# Altium integrated library DAQBOXRev3.2026.IntLib: 12 symbols
Pins are listed as number, name and electrical type; pins without a type are passive.

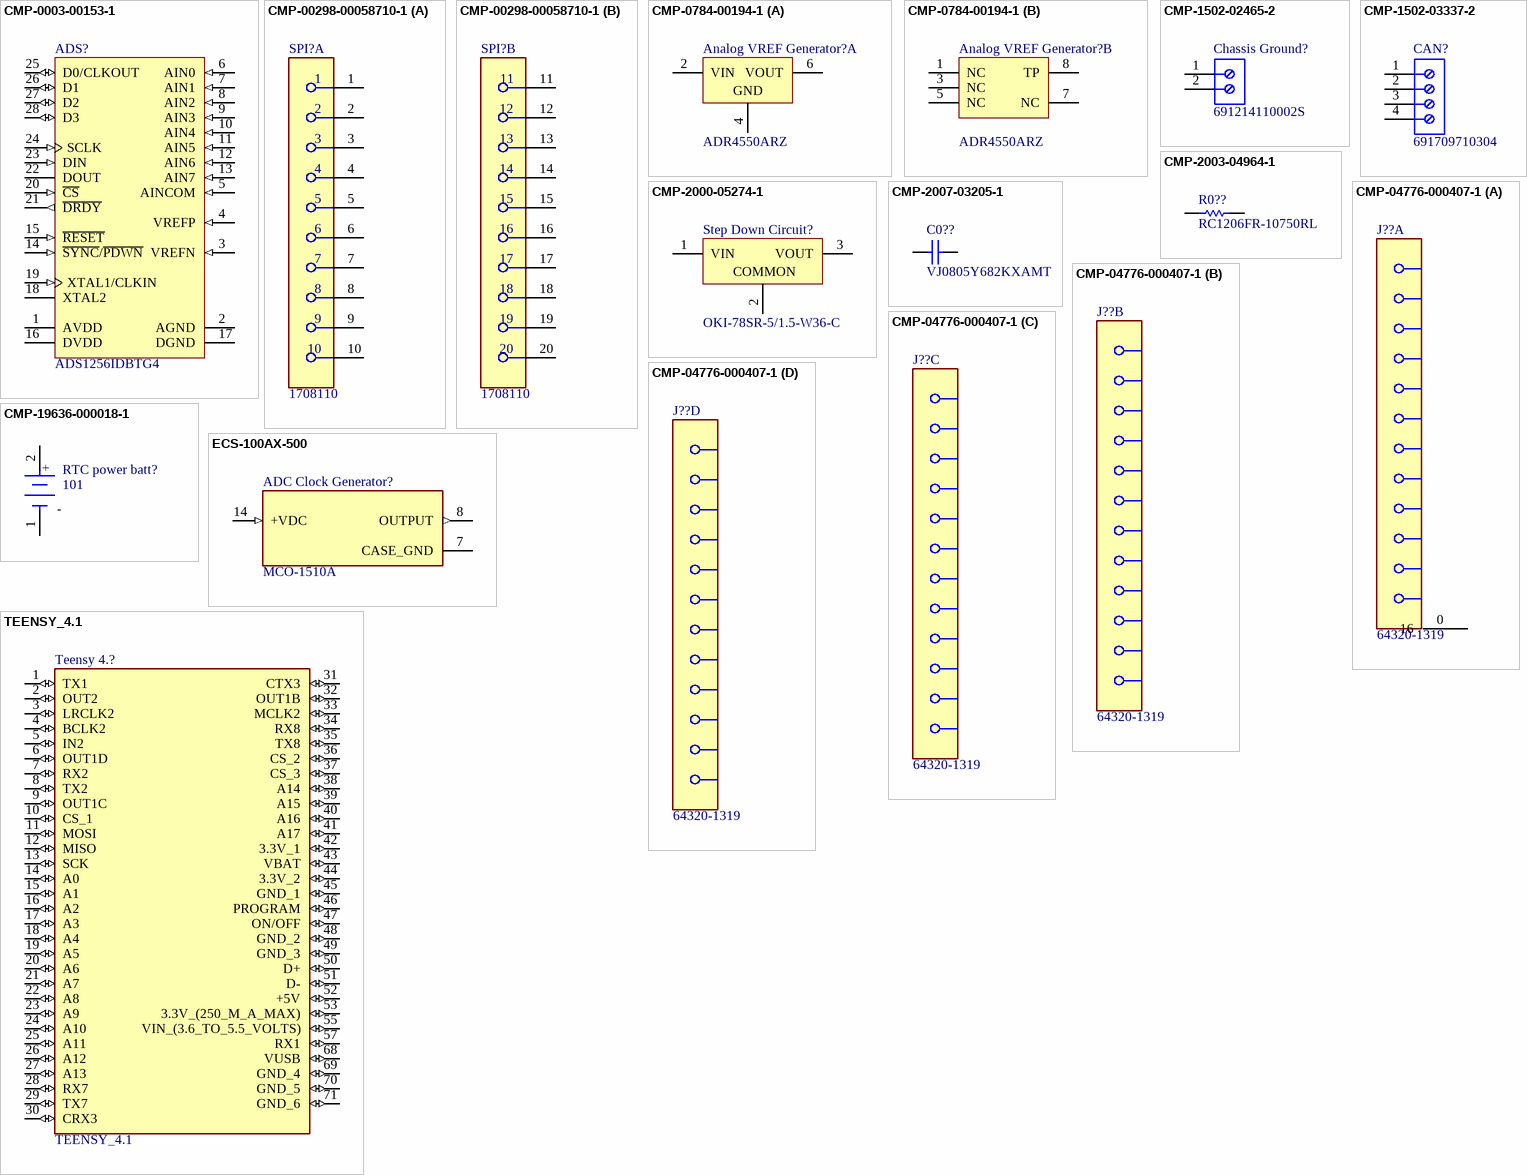
[diagram p0: symbols CMP-0003-00153-1 to TEENSY_4.1]

## CMP-0003-00153-1
designator ADS?, comment ADS1256IDBTG4
24-Bit, 30 kSPS Very Low Noise Delta-Sigma ADC with Multiplexer, -40 to 85 degC, 28-pin SOP (DB28), Green (RoHS & no Sb/Br); Manufacturer: Texas Instruments; SubFamily: Precision ADC (<=10MSPS); Analog Voltage AV/DD(Min)(V): 4.75; Digital Supply(Max)(V): 3.6; Digital Supply(Min)(V): 1.8; Resolution(Bits): 24; Analog Voltage AV/DD(Max)(V): 5.25; Sample Rate (max)(SPS): 30k; # Input Channels: 8; Interface: Serial SPI; Mounting Technology: Surface Mount; Architecture: Delta-Sigma; DatasheetVersion: SBAS288J; ComponentLink3Description: Package Specification; Eco-Plan: Green (RoHS & no Sb/Br); Code_JEDEC: MO-150; PackageDescription: 28-Pin Plastic Small Outline, Body 10.2 X 5.3 mm, Pitch 0.65 mm; ComponentLink3URL: http://www.ti.com/lit/ml/msso002e/msso002e.pdf; ComponentLink1Description: Manufacturer URL; ComponentLink1URL: http://www.ti.com/; PartNumber: ADS1256IDBTG4; ComponentLink2URL: http://www.ti.com/general/docs/lit/getliterature.tsp?genericPartNumber=ADS1256&fileType=pdf; PackageReference: DB28; PackageVersion: 4040065/E, 12/2001; ComponentLink2Description: Datasheet
footprint TI-DB28_L (SOP, 28-Leads, Body 10.2x5.3mm, Pitch 0.65mm, IPC High Density)
footprint TI-DB28_M (SOP, 28-Leads, Body 10.2x5.3mm, Pitch 0.65mm, IPC Low Density)
footprint TI-DB28_N (SOP, 28-Leads, Body 10.2x5.3mm, Pitch 0.65mm, IPC Medium Density)
pins: 1 AVDD (power) "Analog power supply", 2 AGND (power) "Analog ground", 3 VREFN (in) "Negative reference input", 4 VREFP (in) "Positive reference input", 5 AINCOM (in) "Analog input common", 6 AIN0 (in) "Analog input 0", 7 AIN1 (in) "Analog input 1", 8 AIN2 (in) "Analog input 2", 9 AIN3 (in) "Analog input 3", 10 AIN4 (in) "Analog input 4", 11 AIN5 (in) "Analog input 5", 12 AIN6 (in) "Analog input 6", 13 AIN7 (in) "Analog input 7", 14 ~{SYNC}/~{PDWN} (in) "Synchronization / power down input", 15 ~{RESET} (in) "Reset input", 16 DVDD (power) "Digital power supply", 17 DGND (power) "Digital ground", 18 XTAL2 "Crystal oscillator connection", 19 XTAL1/CLKIN (in) "Crystal oscillator connection / external clock input", 20 ~{CS} (in) "Chip select", 21 ~{DRDY} (out) "Data ready output", 22 DOUT (hiz) "Serial data output", 23 DIN (in) "Serial data input", 24 SCLK (in) "Serial clock input", 25 D0/CLKOUT (io) "Digital I/O 0 / clock output", 26 D1 (io) "Digital I/O 1", 27 D2 (io) "Digital I/O 2", 28 D3 (io) "Digital I/O 3"

## CMP-00298-00058710-1
designator SPI?, comment 1708110
1708110 10 Position Wire to Board Terminal Block Horizontal with Board 0.150" (3.81mm) Through Hole; NexarPartId: 58710; Number of Circuits: 20; Max Current Rating: 10A; Gender: Male; Stripping Length: 5mm; Connector Type: Screw; Voltage: 300V; Number of Poles: 10; Wire Gauge (Min): 26AWG; Wire Gauge (Max): 30AWG; Current Rating: 8A; Number of Levels: 2; Voltage Rating: 200V; Approvals: CB, CSA, UL, cULus; Width: 16.3mm; Ambient Temperature Range High: 105°C; Depth: 16.2mm; Min Operating Temperature: -40°C; Number of Rows: 2; Contact Material: Tin; Termination: Screw; Mount: Through Hole; Housing Color: Green; RoHS: Compliant; Pitch: 3.81mm; Color: Green; Housing Material: Nylon; Insulation Material: Nylon; Number of Contacts: 10; Current: 10A; Max Operating Temperature: 105°C; Number of Positions Per Level: 10; Flammability Rating: UL94 V-0; Length: 38.1mm; Material: Polyamide; Number of Positions: 10; Lead Free: Lead Free; Weight: 1.360777kg; Height: 16.2mm; Number of Pins: 20; Orientation: Straight
footprint FP-1708110-MFG (10 Position Wire to Board Terminal Block Horizontal with Board 0.150" (3.81mm) Through Hole)
part A pins: 1, 2, 3, 4, 5, 6, 7, 8, 9, 10
part B pins: 11, 12, 13, 14, 15, 16, 17, 18, 19, 20

## CMP-0784-00194-1
designator Analog VREF Generator?, comment ADR4550ARZ
Ultralow Noise, High Accuracy Voltage Reference, 5 V Output, 3 to 15 V Supply, Industrial, 8-pin SOIC (R-8), Tube; Manufacturer: Analog Devices; Vout: 5V; Max V Supply (V): 15; Min V Supply (V): 3; Ref Out TC (ppm/C): 4; PackageReference: R-8; PackageDescription: 8-Pin Standard Small Outline Package, Body 4.9 x 3.9 mm, Pitch 1.27 mm; PackageVersion: 060506-A, 06/2006; Operating Temp Range: -40 to 125 degC; DatasheetVersion: Rev. 0; ComponentLink1URL: http://www.analog.com/en/index.html; PartNumber: ADR4550ARZ; Mounting Technology: Surface Mount; ComponentLink2URL: http://www.analog.com/static/imported-files/data_sheets/ADR4520_4525_4530_4533_4540_4550.pdf; ComponentLink2Description: Datasheet; ComponentLink3Description: Package Specification; ComponentLink3URL: http://www.analog.com/static/imported-files/packages/PKG_PDF/SOIC_Narrow%20(R)/R_8.pdf; Packing: Tube; ComponentLink1Description: Manufacturer URL; Code_JEDEC: MS-012-AA; ComponentLink4Description: URL Link1; ComponentLink4URL: Product URL:http://www.analog.com/en/special-linear-functions/voltage-references/adr4550/products/product.html
footprint ADI-R-8_N (SOIC, 8-Leads, Body 4.9x3.9mm, Pitch 1.27mm, IPC Medium Density)
footprint ADI-R-8_L (SOIC, 8-Leads, Body 4.9x3.9mm, Pitch 1.27mm, IPC High Density)
footprint ADI-R-8_M (SOIC, 8-Leads, Body 4.9x3.9mm, Pitch 1.27mm, IPC Low Density)
part A pins: 2 VIN (power) "Input Voltage Connection.", 4 GND (power) "Ground.", 6 VOUT (power) "Output Voltage."
part B pins: 1 NC "No Connect. This pin is not connected internally.", 3 NC "No Connect. This pin is not connected internally.", 5 NC "No Connect. This pin is not connected internally.", 7 NC "No Connect. This pin is not connected internally.", 8 TP "Test Pin. Do not connect."

## CMP-1502-02465-2
designator Chassis Ground?, comment 691214110002S
NexarPartId: 94172715; Voltage Rating: 300V; Number of Contacts: 2; Current Rating: 10A; Lead Pitch: 3.5mm; Height: 9.2mm; Min Operating Temperature: -30°C; Number of Pins: 2; Packaging: Box; Max Operating Temperature: 120°C; Contact Material: Nickel, Tin; Number of Rows: 1
footprint 691214110002S (Terminal Block, Wtb, 2Way, 30-16Awg Rohs Compliant: Yes)
pins: 1, 2

## CMP-1502-03337-2
designator CAN?, comment 691709710304
NexarPartId: 34171771; Current: 6A; Voltage: 300V; Number of Positions Per Level: 4; Plating: Steel; Wire Gauge (Max): 30AWG; Pitch: 5mm; Connector Type: Screw; Number of Levels: 1; Color: Black; Lead Pitch: 5mm; Mount: Surface Mount; Flammability Rating: UL94 V-0; Termination: Screw; Housing Material: Nylon; Min Operating Temperature: -40°C; REACH SVHC: Unknown; Number of Pins: 4; Contact Plating: Tin; Packaging: Digi-Reel®; Height: 10.2mm; Number of Rows: 1; Number of Positions: 4; Contact Material: Nickel; Current Rating: 6A; Wire Gauge (Min): 30AWG; Voltage Rating: 300V; Length: 20mm; Wire/Cable Gauge: 30AWG; RoHS: Compliant; Number of Contacts: 4; Max Operating Temperature: 130°C
footprint 691709710304 (WR-TBL Terminal block - Rising Cage - SMT)
pins: 1, 2, 3, 4

## CMP-2000-05274-1
designator Step Down Circuit?, comment OKI-78SR-5/1.5-W36-C
Non-Isolated DC/DC Converter, 7.5 W, 7 to 36 V, 1.5 A, -40 to 85 degC, 3-Pin THD, RoHS; Manufacturer: Murata; Current - Output (Max): 1.5A; Power (Watts) - Max: 8W; Efficiency: 90.5%; Voltage - Input (Min): 7V; Voltage - Input (Max): 36V; Voltage - Output 1: 5V; Number of Outputs: 1; Package / Case: 3-SIPModule; Features: SCP; Type: LinearRegulatorReplacement; Size / Dimension: 0.41"Lx0.30"Wx0.65"H(10.4mmx7.6mmx16.5mm); Datasheet URL: https://datasheet.ciiva.com/8006/1790439-8006672.pdf; Datasheet Version: Oct-13; Power (Watts) - Manufacture Series: 8W; Voltage - Output 2: -; Series: Okami™OKI-78SR; Family: DCDCConverters; Manufacturer URL: http://www.murata.com/; Category: PowerSupplies-BoardMount; Voltage - Isolation: -; Packaging: Tube; Applications: ITE(Commercial); Mounting Type: ThroughHole; Voltage - Output 3: -; Operating Temperature: -40degC~85degC
footprint MURA-OKI-78SR-3 (THMT, 3-Leads, Body 10.4x7.6mm)
pins: 1 VIN (power), 2 COMMON (power), 3 VOUT (power)

## CMP-2003-04964-1
designator R0??, comment RC1206FR-10750RL
Manufacturer: Yageo; Part Number: RC1206FR-10750RL
footprint RESC3116X65X40LL10T20 (Chip Resistor, 2-Leads, Body 3.10x1.60mm, IPC High Density)
footprint RESC3116X65X40ML10T20 (Chip Resistor, 2-Leads, Body 3.10x1.60mm, IPC Low Density)
footprint RESC3116X65X40NL10T20 (Chip Resistor, 2-Leads, Body 3.10x1.60mm, IPC Medium Density)
pins: 1, 2
1 alternate drawing of the same symbol

## CMP-2007-03205-1
designator C0??, comment VJ0805Y682KXAMT
Manufacturer: Vitramon; Part Number: VJ0805Y682KXAMT
footprint CAPC2013X145X48ML20T23 (Chip Capacitor, 2-Leads, Body 2.00x1.25mm, IPC Low Density)
footprint CAPC2013X145X48LL20T23 (Chip Capacitor, 2-Leads, Body 2.00x1.25mm, IPC High Density)
footprint CAPC2013X145X48NL20T23 (Chip Capacitor, 2-Leads, Body 2.00x1.25mm, IPC Medium Density)
pins: 1, 2
1 alternate drawing of the same symbol

## CMP-04776-000407-1
designator J??, comment 64320-1319
CONN RCPT 48POS CMC 4ROW BROWN; Max Voltage Rating (AC): 250V; Glow Wire Compliant: Non-compliant; Number of Contacts: 48; Pitch: 2.54mm; Gender: Female; Current Rating: 12A; Number of Ports: 1; Orientation: Straight; Material: Polyester; Series: 64320; Number of Rows: 4; Package Quantity: 220; Packaging: Bulk; Radiation Hardening: No; Halogen Free: Low Halogen; Termination: Crimp; Min Operating Temperature: -40°C; RoHS Compliant: Yes; Number of Positions: 48; Housing Material: Nylon; Length: 34.9mm; Max Operating Temperature: 125°C; Color: Brown
footprint FP-64320-1319-MFG
part A pins: 0 16

## CMP-19636-000018-1
designator RTC power batt?, comment 101
BATTERY HOLDER COIN 20MM PC PIN; Body Material: PBT; Number of Batteries: 1; Packaging: Bag; Lead Free: Lead Free; Package Quantity: 1; Contact Plating: Tin; Termination: PC Pin; REACH SVHC: No SVHC; Material: Steel; Mount: Through Hole; Max Operating Temperature: 145°C; Min Operating Temperature: -50°C; Number of Cells: 1; Series: -
footprint FP-101-MFG
pins: 1 C, 2 A
text: +

## ECS-100AX-500
designator ADC Clock Generator?, comment MCO-1510A
Oscillator  14-DIP, 4 Leads (Full Size, Metal Can); MP: ECS-100AX-500; Package: None; Price: None; Value: *; Availability: Unavailable
footprint OSC_ECS-100AX-500
pins: 7 CASE_GND (power), 8 OUTPUT (out), 14 +VDC (in)

## TEENSY_4.1
designator Teensy 4.?
<b>Teensy 4.1 Development Board</b><p> Source: <a href="https://www.pjrc.com/store/teensy41.html"> Datasheet </a>; MF: PJRC; SnapEDA_Link: https://www.snapeda.com/parts/Teensy%204.1/PJRC/view-part/?ref=snap; Package: None; Value: *; MP: Teensy 4.1; Check_prices: https://www.snapeda.com/parts/Teensy%204.1/PJRC/view-part/?ref=eda
footprint TEENSY41
footprint Model Name (Footprint not found)
footprint Model Name (Footprint not found)
pins: 1 TX1 (io), 2 OUT2 (io), 3 LRCLK2 (io), 4 BCLK2 (io), 5 IN2 (io), 6 OUT1D (io), 7 RX2 (io), 8 TX2 (io), 9 OUT1C (io), 10 CS_1 (io), 11 MOSI (io), 12 MISO (io), 13 SCK (io), 14 A0 (io), 15 A1 (io), 16 A2 (io), 17 A3 (io), 18 A4 (io), 19 A5 (io), 20 A6 (io), 21 A7 (io), 22 A8 (io), 23 A9 (io), 24 A10 (io), 25 A11 (io), 26 A12 (io), 27 A13 (io), 28 RX7 (io), 29 TX7 (io), 30 CRX3 (io), 31 CTX3 (io), 32 OUT1B (io), 33 MCLK2 (io), 34 RX8 (io), 35 TX8 (io), 36 CS_2 (io), 37 CS_3 (io), 38 A14 (io), 39 A15 (io), 40 A16 (io), 41 A17 (io), 42 3.3V_1 (io), 43 VBAT (io), 44 3.3V_2 (io), 45 GND_1 (io), 46 PROGRAM (io), 47 ON/OFF (io), 48 GND_2 (io), 49 GND_3 (io), 50 D+ (io), 51 D- (io), 52 +5V (io), 53 3.3V_(250_M_A_MAX) (io), 55 VIN_(3.6_TO_5.5_VOLTS) (io), 57 RX1 (io), 68 VUSB (io), 69 GND_4 (io), 70 GND_5 (io), 71 GND_6 (io)